# Altium footprint library CA_CANTHD85P236_H185_A.PcbLib: 1 footprints
Each footprint in its own frame and in the unit in brackets; x right, y up, seen from the top. Pads: shape width x height; smd on the part's side, far side on the other; paste and mask are expansions set on the pad; w line width, h text height; cw(c..) or ccw(c..) is an arc to the next point about the centre after c.
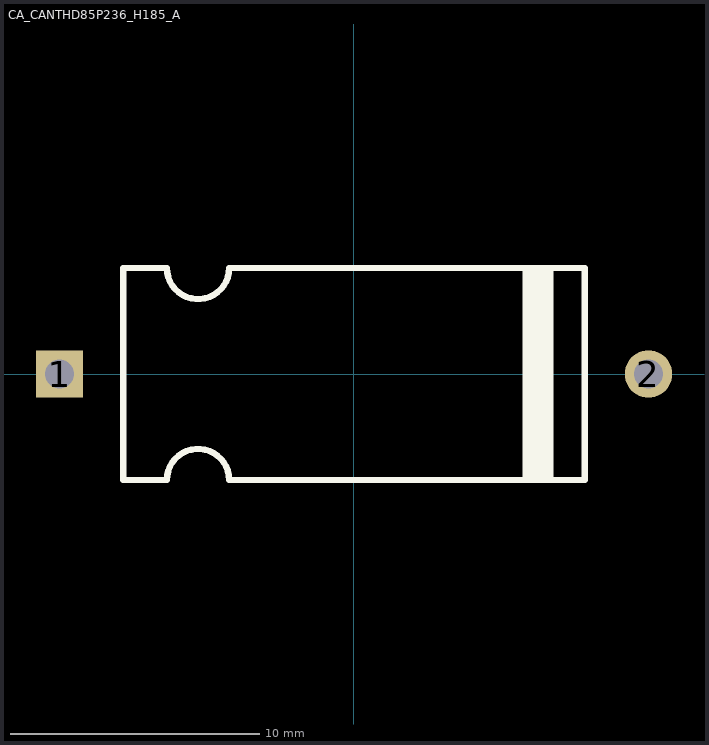
[diagram p0: the footprint, top view; thin cyan lines are the x and y axes]

## CA_CANTHD85P236_H185_A [mm] "Capacitor, Electrolytic, Axial; Body 18.5 x 8.5 mm (LxDia. max), Lead Dia. 0.8 mm (typ)"
height 8.5
pads (2):
  rect 1.9x1.9 hole 1.15: 1(-11.8,0)
  round 1.9 hole 1.15: 2(11.8,0)
Top Overlay:
  rectangle: 6.75,-4.25 8,4.25
  lines w0.254: -9.25,-4.25 -9.25,4.25 -7.5,4.25 ccw(c-6.25,4.25) -5,4.25 9.25,4.25 9.25,-4.25 -5,-4.25 ccw(c-6.25,-4.25) -7.5,-4.25 -9.25,-4.25